# EAGLE library part XS-HOST (library pcie)
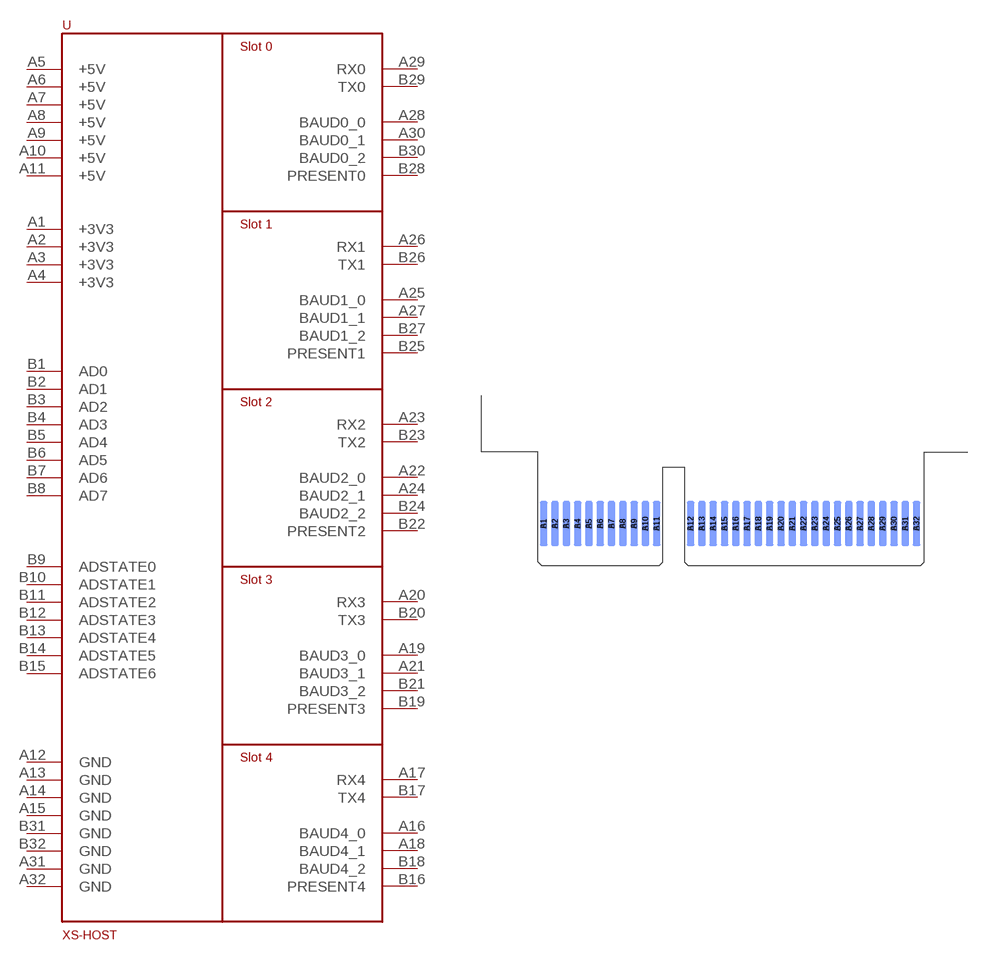
[diagram p5: symbol with the pads of XS-HOST; footprint XS-HOST]

Designator prefix -

## XS-HOST  [XS-HOST]
A1  +3V3
A2  +3V3
A3  +3V3
A4  +3V3
A5  +5V
A6  +5V
A7  +5V
A8  +5V
A9  +5V
A10  +5V
A11  +5V
A12  GND
A13  GND
A14  GND
A15  GND
A16  BAUD4_0
A17  RX4
A18  BAUD4_1
A19  BAUD3_0
A20  RX3
A21  BAUD3_1
A22  BAUD2_0
A23  RX2
A24  BAUD2_1
A25  BAUD1_0
A26  RX1
A27  BAUD1_1
A28  BAUD0_0
A29  RX0
A30  BAUD0_1
A31  GND
A32  GND
B1  AD0
B2  AD1
B3  AD2
B4  AD3
B5  AD4
B6  AD5
B7  AD6
B8  AD7
B9  ADSTATE0
B10  ADSTATE1
B11  ADSTATE2
B12  ADSTATE3
B13  ADSTATE4
B14  ADSTATE5
B15  ADSTATE6
B16  PRESENT4
B17  TX4
B18  BAUD4_2
B19  PRESENT3
B20  TX3
B21  BAUD3_2
B22  PRESENT2
B23  TX2
B24  BAUD2_2
B25  PRESENT1
B26  TX1
B27  BAUD1_2
B28  PRESENT0
B29  TX0
B30  BAUD0_2
B31  GND
B32  GND

## Footprint XS-HOST (pad centres in mm)
smd 0.7 x 4 bottom: A1 5.49,3.68; A2 6.49,3.68; A3 7.49,3.68; A4 8.49,3.68; A5 9.49,3.68; A6 10.49,3.68; A7 11.49,3.68; A8 12.49,3.68; A9 13.49,3.68; A10 14.49,3.68; A11 15.49,3.68; A12 18.49,3.68; A13 19.49,3.68; A14 20.49,3.68; A15 21.49,3.68; A16 22.49,3.68; A17 23.49,3.68; A18 24.49,3.68; A19 25.49,3.68; A20 26.49,3.68; A21 27.49,3.68; A22 28.49,3.68; A23 29.49,3.68; A24 30.49,3.68; A25 31.49,3.68; A26 32.49,3.68; A27 33.49,3.68; A28 34.49,3.68; A29 35.49,3.68; A30 36.49,3.68; A31 37.49,3.68; A32 38.49,3.68
smd 0.7 x 4: B1 5.49,3.68; B2 6.49,3.68; B3 7.49,3.68; B4 8.49,3.68; B5 9.49,3.68; B6 10.49,3.68; B7 11.49,3.68; B8 12.49,3.68; B9 13.49,3.68; B10 14.49,3.68; B11 15.49,3.68; B12 18.49,3.68; B13 19.49,3.68; B14 20.49,3.68; B15 21.49,3.68; B16 22.49,3.68; B17 23.49,3.68; B18 24.49,3.68; B19 25.49,3.68; B20 26.49,3.68; B21 27.49,3.68; B22 28.49,3.68; B23 29.49,3.68; B24 30.49,3.68; B25 31.49,3.68; B26 32.49,3.68; B27 33.49,3.68; B28 34.49,3.68; B29 35.49,3.68; B30 36.49,3.68; B31 37.49,3.68; B32 38.49,3.68